# Altium schematic symbol library LED_BRG.SchLib: 1 symbol
Pins are listed as number, name and electrical type; pins without a type are passive.

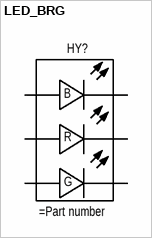
[diagram p0: symbol LED_BRG]

## LED_BRG
designator HY?
pins: 1 C, 2 C, 3 C, 4 A, 5 A, 6 A
text: B; R; G